# Altium schematic symbol library Sticker Surface chaude ISO7010.SchLib: 1 symbol
Pins are listed as number, name and electrical type; pins without a type are passive.

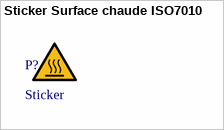
[diagram p0: symbol Sticker Surface chaude ISO7010]

## Sticker Surface chaude ISO7010
designator P?, comment Sticker
PIC W017-TRI 015-PE-SHEET/1; IsStocked: 1; PN: PIC W017-TRI 015-PE-SHEET/1; Supplier 1: Distrelec; Supplier Part Number 1: 302-20-433; Supplier Price 1: 0.246